# EAGLE library part EPM7064-T100 (library altera_pga84)
EPM7064 MAX 7000 family
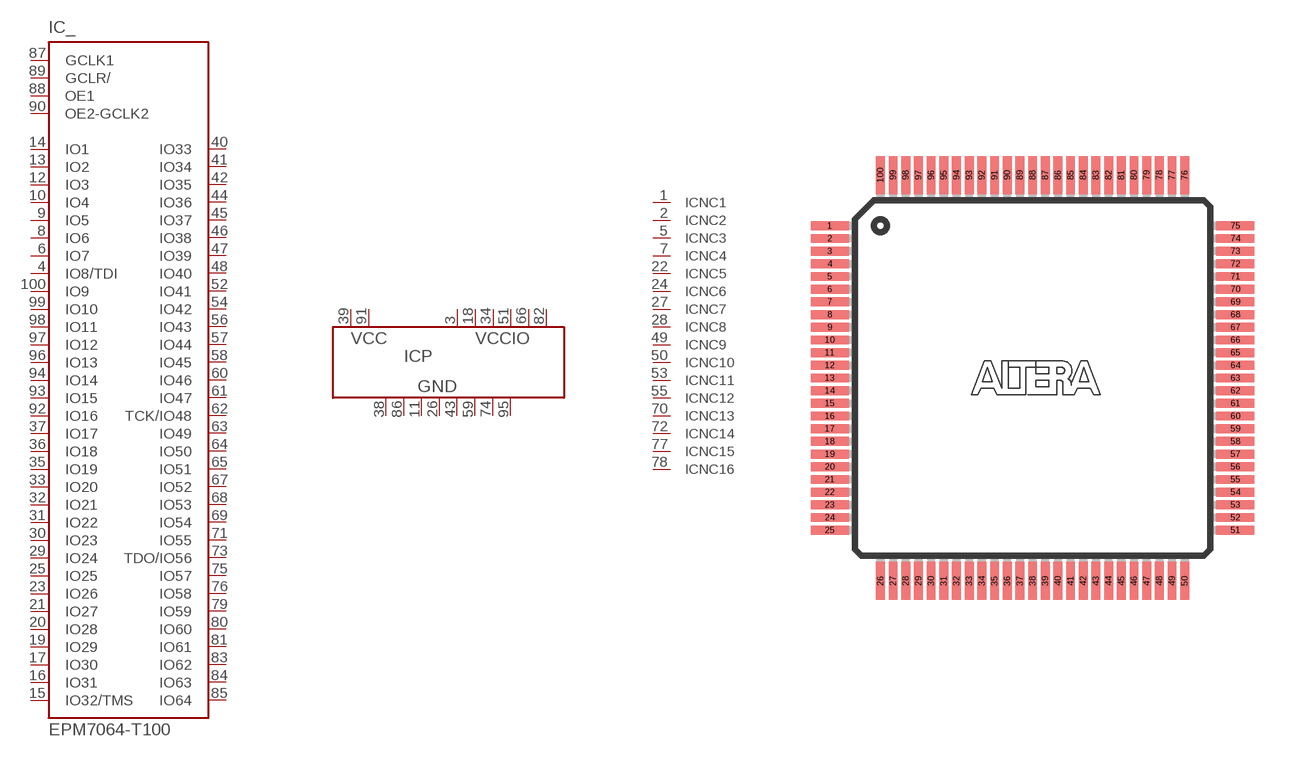
[diagram p4: symbol with the pads of TQFP100; footprint TQFP100]

Designator prefix IC; gates _=EPM7064S P=PWR8-2-6 NC1=NC NC2=NC NC3=NC NC4=NC NC5=NC NC6=NC NC7=NC NC8=NC NC9=NC NC10=NC NC11=NC NC12=NC NC13=NC NC14=NC NC15=NC NC16=NC

## EPM7064-T100 (MPN: EPM7064STI100-7N; OC_FARNELL: 1549426; OC_NEWARK: 51R9650)  [TQFP100]
1  NC1:NC  nc
2  NC2:NC  nc
3  P:VCCIO  pwr
4  _:IO8/TDI
5  NC3:NC  nc
6  _:IO7
7  NC4:NC  nc
8  _:IO6
9  _:IO5
10  _:IO4
11  P:GND  pwr
12  _:IO3
13  _:IO2
14  _:IO1
15  _:IO32/TMS
16  _:IO31
17  _:IO30
18  P:VCCIO  pwr
19  _:IO29
20  _:IO28
21  _:IO27
22  NC5:NC  nc
23  _:IO26
24  NC6:NC  nc
25  _:IO25
26  P:GND  pwr
27  NC7:NC  nc
28  NC8:NC  nc
29  _:IO24
30  _:IO23
31  _:IO22
32  _:IO21
33  _:IO20
34  P:VCCIO  pwr
35  _:IO19
36  _:IO18
37  _:IO17
38  P:GND  pwr
39  P:VCC  pwr
40  _:IO33
41  _:IO34
42  _:IO35
43  P:GND  pwr
44  _:IO36
45  _:IO37
46  _:IO38
47  _:IO39
48  _:IO40
49  NC9:NC  nc
50  NC10:NC  nc
51  P:VCCIO  pwr
52  _:IO41
53  NC11:NC  nc
54  _:IO42
55  NC12:NC  nc
56  _:IO43
57  _:IO44
58  _:IO45
59  P:GND  pwr
60  _:IO46
61  _:IO47
62  _:TCK/IO48
63  _:IO49
64  _:IO50
65  _:IO51
66  P:VCCIO  pwr
67  _:IO52
68  _:IO53
69  _:IO54
70  NC13:NC  nc
71  _:IO55
72  NC14:NC  nc
73  _:TDO/IO56
74  P:GND  pwr
75  _:IO57
76  _:IO58
77  NC15:NC  nc
78  NC16:NC  nc
79  _:IO59
80  _:IO60
81  _:IO61
82  P:VCCIO  pwr
83  _:IO62
84  _:IO63
85  _:IO64
86  P:GND  pwr
87  _:GCLK1  in
88  _:OE1  in
89  _:GCLR/  in
90  _:OE2-GCLK2  in
91  P:VCC  pwr
92  _:IO16
93  _:IO15
94  _:IO14
95  P:GND  pwr
96  _:IO13
97  _:IO12
98  _:IO11
99  _:IO10
100  _:IO9

## Footprint TQFP100 (pad centres in mm)
Plastic Thin Quad Flat Pack
smd 1.5 x 0.35: 1 -8,6; 2 -8,5.5; 3 -8,5; 4 -8,4.5; 5 -8,4; 6 -8,3.5; 7 -8,3; 8 -8,2.5; 9 -8,2; 10 -8,1.5; 11 -8,1; 12 -8,0.5; 13 -8,0; 14 -8,-0.5; 15 -8,-1; 16 -8,-1.5; 17 -8,-2; 18 -8,-2.5; 19 -8,-3; 20 -8,-3.5; 21 -8,-4; 22 -8,-4.5; 23 -8,-5; 24 -8,-5.5; 25 -8,-6; 51 8,-6; 52 8,-5.5; 53 8,-5; 54 8,-4.5; 55 8,-4; 56 8,-3.5; 57 8,-3; 58 8,-2.5; 59 8,-2; 60 8,-1.5; 61 8,-1; 62 8,-0.5; 63 8,0; 64 8,0.5; 65 8,1; 66 8,1.5; 67 8,2; 68 8,2.5; 69 8,3; 70 8,3.5; 71 8,4; 72 8,4.5; 73 8,5; 74 8,5.5; 75 8,6
smd 0.35 x 1.5: 26 -6,-8; 27 -5.5,-8; 28 -5,-8; 29 -4.5,-8; 30 -4,-8; 31 -3.5,-8; 32 -3,-8; 33 -2.5,-8; 34 -2,-8; 35 -1.5,-8; 36 -1,-8; 37 -0.5,-8; 38 0,-8; 39 0.5,-8; 40 1,-8; 41 1.5,-8; 42 2,-8; 43 2.5,-8; 44 3,-8; 45 3.5,-8; 46 4,-8; 47 4.5,-8; 48 5,-8; 49 5.5,-8; 50 6,-8; 76 6,8; 77 5.5,8; 78 5,8; 79 4.5,8; 80 4,8; 81 3.5,8; 82 3,8; 83 2.5,8; 84 2,8; 85 1.5,8; 86 1,8; 87 0.5,8; 88 0,8; 89 -0.5,8; 90 -1,8; 91 -1.5,8; 92 -2,8; 93 -2.5,8; 94 -3,8; 95 -3.5,8; 96 -4,8; 97 -4.5,8; 98 -5,8; 99 -5.5,8; 100 -6,8